# EAGLE library part LCMXO2-1200HC-TQFP100 (library bmowdisk)
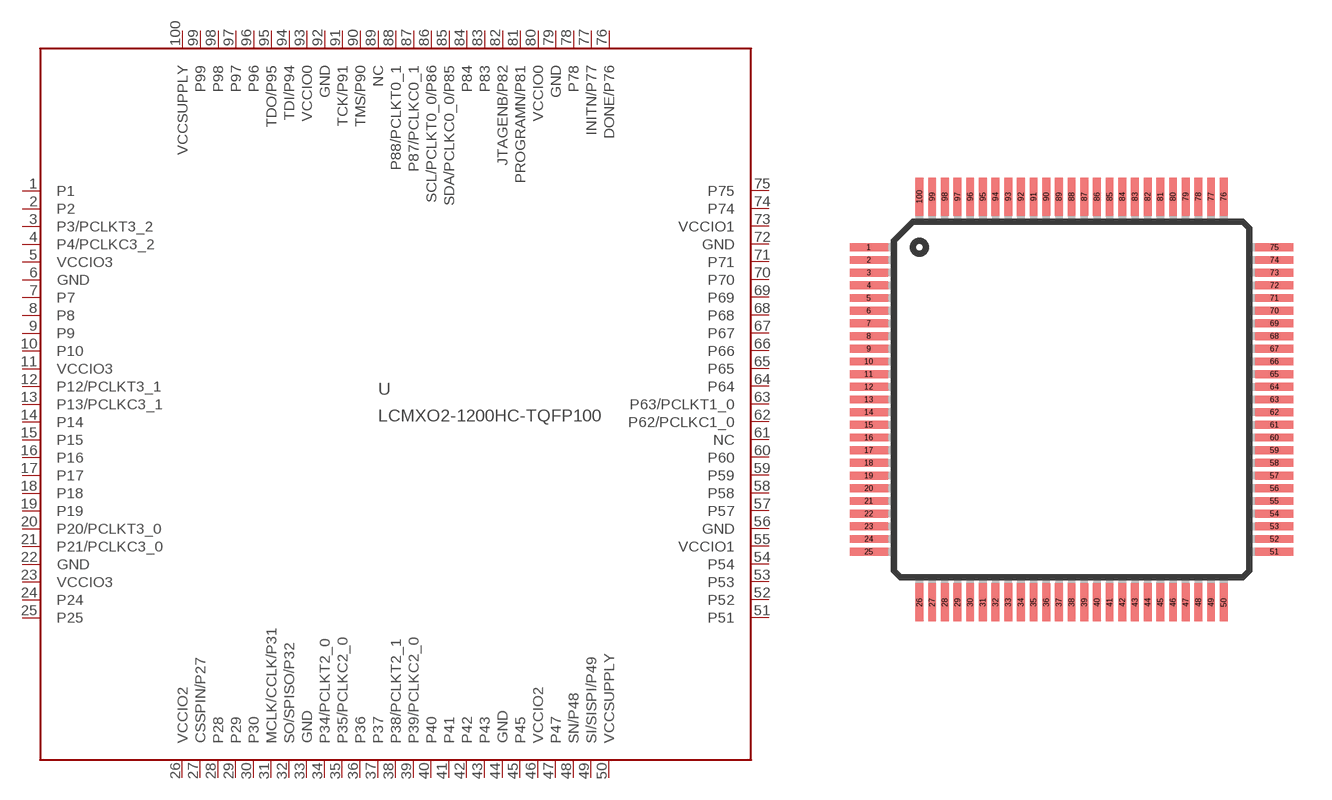
[diagram p6: symbol with the pads of TQFP100; footprint TQFP100]

Designator prefix -

## LCMXO2-1200HC-TQFP100  [TQFP100]
1  P1
2  P2
3  P3/PCLKT3_2
4  P4/PCLKC3_2
5  VCCIO3  pwr
6  GND  pwr
7  P7
8  P8
9  P9
10  P10
11  VCCIO3  pwr
12  P12/PCLKT3_1
13  P13/PCLKC3_1
14  P14
15  P15
16  P16
17  P17
18  P18
19  P19
20  P20/PCLKT3_0
21  P21/PCLKC3_0
22  GND  pwr
23  VCCIO3  pwr
24  P24
25  P25
26  VCCIO2  pwr
27  CSSPIN/P27
28  P28
29  P29
30  P30
31  MCLK/CCLK/P31
32  SO/SPISO/P32
33  GND  pwr
34  P34/PCLKT2_0
35  P35/PCLKC2_0
36  P36
37  P37
38  P38/PCLKT2_1
39  P39/PCLKC2_0
40  P40
41  P41
42  P42
43  P43
44  GND  pwr
45  P45
46  VCCIO2  pwr
47  P47
48  SN/P48
49  SI/SISPI/P49
50  VCCSUPPLY  pwr
51  P51
52  P52
53  P53
54  P54
55  VCCIO1  pwr
56  GND  pwr
57  P57
58  P58
59  P59
60  P60
61  NC  nc
62  P62/PCLKC1_0
63  P63/PCLKT1_0
64  P64
65  P65
66  P66
67  P67
68  P68
69  P69
70  P70
71  P71
72  GND  pwr
73  VCCIO1  pwr
74  P74
75  P75
76  DONE/P76
77  INITN/P77
78  P78
79  GND  pwr
80  VCCIO0  pwr
81  PROGRAMN/P81
82  JTAGENB/P82
83  P83
84  P84
85  SDA/PCLKC0_0/P85
86  SCL/PCLKT0_0/P86
87  P87/PCLKC0_1
88  P88/PCLKT0_1
89  NC  nc
90  TMS/P90
91  TCK/P91
92  GND  pwr
93  VCCIO0  pwr
94  TDI/P94
95  TDO/P95
96  P96
97  P97
98  P98
99  P99
100  VCCSUPPLY  pwr

## Footprint TQFP100 (pad centres in mm)
smd 1.5 x 0.31: 1 -8,6; 2 -8,5.5; 3 -8,5; 4 -8,4.5; 5 -8,4; 6 -8,3.5; 7 -8,3; 8 -8,2.5; 9 -8,2; 10 -8,1.5; 11 -8,1; 12 -8,0.5; 13 -8,0; 14 -8,-0.5; 15 -8,-1; 16 -8,-1.5; 17 -8,-2; 18 -8,-2.5; 19 -8,-3; 20 -8,-3.5; 21 -8,-4; 22 -8,-4.5; 23 -8,-5; 24 -8,-5.5; 25 -8,-6; 51 8,-6; 52 8,-5.5; 53 8,-5; 54 8,-4.5; 55 8,-4; 56 8,-3.5; 57 8,-3; 58 8,-2.5; 59 8,-2; 60 8,-1.5; 61 8,-1; 62 8,-0.5; 63 8,0; 64 8,0.5; 65 8,1; 66 8,1.5; 67 8,2; 68 8,2.5; 69 8,3; 70 8,3.5; 71 8,4; 72 8,4.5; 73 8,5; 74 8,5.5; 75 8,6
smd 0.31 x 1.5: 26 -6,-8; 27 -5.5,-8; 28 -5,-8; 29 -4.5,-8; 30 -4,-8; 31 -3.5,-8; 32 -3,-8; 33 -2.5,-8; 34 -2,-8; 35 -1.5,-8; 36 -1,-8; 37 -0.5,-8; 38 0,-8; 39 0.5,-8; 40 1,-8; 41 1.5,-8; 42 2,-8; 43 2.5,-8; 44 3,-8; 45 3.5,-8; 46 4,-8; 47 4.5,-8; 48 5,-8; 49 5.5,-8; 50 6,-8; 76 6,8; 77 5.5,8; 78 5,8; 79 4.5,8; 80 4,8; 81 3.5,8; 82 3,8; 83 2.5,8; 84 2,8; 85 1.5,8; 86 1,8; 87 0.5,8; 88 0,8; 89 -0.5,8; 90 -1,8; 91 -1.5,8; 92 -2,8; 93 -2.5,8; 94 -3,8; 95 -3.5,8; 96 -4,8; 97 -4.5,8; 98 -5,8; 99 -5.5,8; 100 -6,8